# Altium integrated library TI Microcontroller MSP430 16-bit Ultra-Low Power.IntLib: 1463 symbols (part 56 of 130)
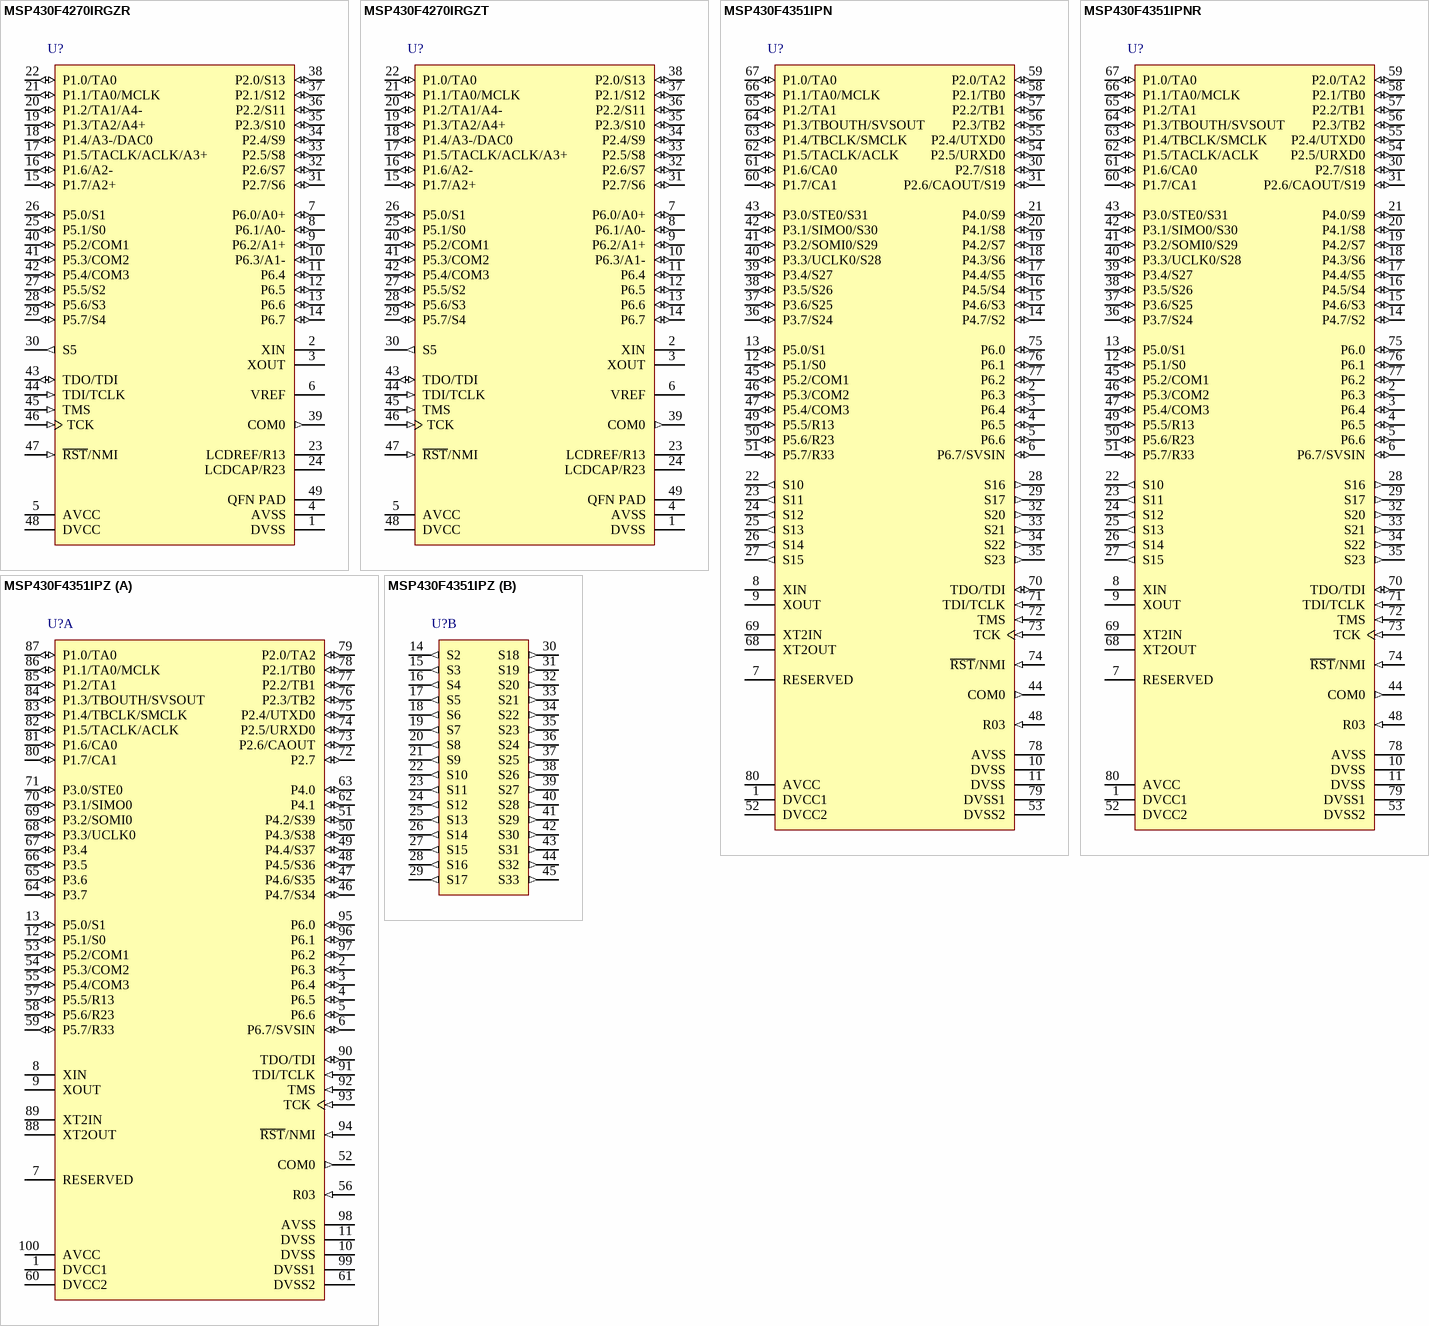
[diagram p364: symbols MSP430F4270IRGZR to MSP430F4351IPZ]

## MSP430F4270IRGZR
designator U?
8 MHz Mixed Signal Microcontroller with 32 KB Flash, 256 B SRAM and 32 GPIOs, -40 to 85 degC, 48-pin QFN (RGZ), Green (RoHS & no Sb/Br); Manufacturer: Texas Instruments; PartNumber: MSP430F4270IRGZR; ADC: 16-bit Sigma Delta; Brown Out Reset: Yes; DAC: 1; Flash(KB): 32; Frequency(MHz): 8; LCD Segments: 56; SRAM(B): 256; SubFamily: 4 Series with LCD; DatasheetVersion: SLAS455D; PackageVersion: 4204101/F; PackageReference: RGZ48-5150X5150TP; PackageDescription: 48-Pin Plastic Flat Pack, Body 7 x 7 mm, Pitch 0.5 mm; Supplier 1: Digi-Key; Supplier Part Number 1: 296-18070-2-ND; Supplier 2: Digi-Key; Supplier Part Number 2: 296-18070-1-ND; Supplier 3: Digi-Key; Supplier Part Number 3: 296-18070-6-ND; Supplier 4: Newark; Supplier Part Number 4: 37K0628; Supplier 5: Mouser; Supplier Part Number 5: 595-MSP430F4270IDLR; Eco-Plan: Green (RoHS & no Sb/Br); GPIO: 32; Temp Sensor: Yes; Timers - 16-bit: 1; Watchdog: Yes; Mounting Technology: Surface Mount; Code_JEDEC: MO-220; ComponentLink1Description: Manufacturer URL; ComponentLink1URL: http://www.ti.com/; ComponentLink2Description: Datasheet; ComponentLink2URL: http://www.ti.com/general/docs/lit/getliterature.tsp?genericPartNumber=MSP430F4270&fileType=pdf; ComponentLink3Description: Package Specification; ComponentLink3URL: http://www.ti.com/lit/ml/mpqf123e/mpqf123e.pdf
footprint TI-RGZ48-5150X5150TP_N (QFN, 48-Leads, Body 7x7mm, Pitch 0.5mm, Thermal Pad 5.15X5.15mm, IPC Medium Density)
pins: 1 DVSS (power) "Digital supply voltage, negative terminal", 2 XIN "Input terminal of crystal oscillator XT1", 3 XOUT "Output terminal of crystal oscillator XT1", 4 AVSS (power) "Analog supply voltage, negative terminal", 5 AVCC (power) "Analog supply voltage, positive terminal", 6 VREF "Analog reference voltage", 7 P6.0/A0+ (io), 8 P6.1/A0- (io), 9 P6.2/A1+ (io), 10 P6.3/A1- (io), 11 P6.4 (io) "General-purpose digital I/O", 12 P6.5 (io) "General-purpose digital I/O", 13 P6.6 (io) "General-purpose digital I/O", 14 P6.7 (io) "General-purpose digital I/O", 15 P1.7/A2+ (io), 16 P1.6/A2- (io), 17 P1.5/TACLK/ACLK/A3+ (io), 18 P1.4/A3-/DAC0 (io), 19 P1.3/TA2/A4+ (io), 20 P1.2/TA1/A4- (io), 21 P1.1/TA0/MCLK (io), 22 P1.0/TA0 (io), 23 LCDREF/R13, 24 LCDCAP/R23, 25 P5.1/S0 (io), 26 P5.0/S1 (io), 27 P5.5/S2 (io), 28 P5.6/S3 (io), 29 P5.7/S4 (io), 30 S5 (out) "LCD segment output 5", 31 P2.7/S6 (io), 32 P2.6/S7 (io), 33 P2.5/S8 (io), 34 P2.4/S9 (io), 35 P2.3/S10 (io), 36 P2.2/S11 (io), 37 P2.1/S12 (io), 38 P2.0/S13 (io), 39 COM0 (out) "Common output, COM0 are used for LCD backplanes.", 40 P5.2/COM1 (io), 41 P5.3/COM2 (io), 42 P5.4/COM3 (io), 43 TDO/TDI (io) "Test data output port. TDO/TDI data output or programming data input terminal", 44 TDI/TCLK (in) "Test data input or test clock input. The device protection fuse is connected to TDI/TCLK.", 45 TMS (in) "Test mode select. TMS is used as an input port for device programming and test.", 46 TCK (in) "Test clock. TCK is the clock input port for device programming and test.", 47 ~{RST}/NMI (in), 48 DVCC (power) "Digital supply voltage, positive terminal", 49 QFN PAD (power) "QFN package pad connection to DVSS recommended."

## MSP430F4270IRGZT
designator U?
8 MHz Mixed Signal Microcontroller with 32 KB Flash, 256 B SRAM and 32 GPIOs, -40 to 85 degC,48-pin QFN (RGZ), Green (RoHS & no Sb/Br); Manufacturer: Texas Instruments; PartNumber: MSP430F4270IRGZT; ADC: 16-bit Sigma Delta; Brown Out Reset: Yes; DAC: 1; Flash(KB): 32; Frequency(MHz): 8; LCD Segments: 56; SRAM(B): 256; SubFamily: 4 Series with LCD; DatasheetVersion: SLAS455D; PackageVersion: 4204101/F; PackageReference: RGZ48-5150X5150TP; PackageDescription: 48-Pin Plastic Flat Pack, Body 7 x 7 mm, Pitch 0.5 mm; Supplier 1: Digi-Key; Supplier Part Number 1: MSP430F4270IRGZR-ND; Supplier 2: Mouser; Supplier Part Number 2: 595-MSP430F4270IRGZR; Eco-Plan: Green (RoHS & no Sb/Br); GPIO: 32; Temp Sensor: Yes; Timers - 16-bit: 1; Watchdog: Yes; Mounting Technology: Surface Mount; Code_JEDEC: MO-220; ComponentLink1Description: Manufacturer URL; ComponentLink1URL: http://www.ti.com/; ComponentLink2Description: Datasheet; ComponentLink2URL: http://www.ti.com/general/docs/lit/getliterature.tsp?genericPartNumber=MSP430F4270&fileType=pdf; ComponentLink3Description: Package Specification; ComponentLink3URL: http://www.ti.com/lit/ml/mpqf123e/mpqf123e.pdf
footprint TI-RGZ48-5150X5150TP_N (QFN, 48-Leads, Body 7x7mm, Pitch 0.5mm, Thermal Pad 5.15X5.15mm, IPC Medium Density)
pins: 1 DVSS (power) "Digital supply voltage, negative terminal", 2 XIN "Input terminal of crystal oscillator XT1", 3 XOUT "Output terminal of crystal oscillator XT1", 4 AVSS (power) "Analog supply voltage, negative terminal", 5 AVCC (power) "Analog supply voltage, positive terminal", 6 VREF "Analog reference voltage", 7 P6.0/A0+ (io), 8 P6.1/A0- (io), 9 P6.2/A1+ (io), 10 P6.3/A1- (io), 11 P6.4 (io) "General-purpose digital I/O", 12 P6.5 (io) "General-purpose digital I/O", 13 P6.6 (io) "General-purpose digital I/O", 14 P6.7 (io) "General-purpose digital I/O", 15 P1.7/A2+ (io), 16 P1.6/A2- (io), 17 P1.5/TACLK/ACLK/A3+ (io), 18 P1.4/A3-/DAC0 (io), 19 P1.3/TA2/A4+ (io), 20 P1.2/TA1/A4- (io), 21 P1.1/TA0/MCLK (io), 22 P1.0/TA0 (io), 23 LCDREF/R13, 24 LCDCAP/R23, 25 P5.1/S0 (io), 26 P5.0/S1 (io), 27 P5.5/S2 (io), 28 P5.6/S3 (io), 29 P5.7/S4 (io), 30 S5 (out) "LCD segment output 5", 31 P2.7/S6 (io), 32 P2.6/S7 (io), 33 P2.5/S8 (io), 34 P2.4/S9 (io), 35 P2.3/S10 (io), 36 P2.2/S11 (io), 37 P2.1/S12 (io), 38 P2.0/S13 (io), 39 COM0 (out) "Common output, COM0 are used for LCD backplanes.", 40 P5.2/COM1 (io), 41 P5.3/COM2 (io), 42 P5.4/COM3 (io), 43 TDO/TDI (io) "Test data output port. TDO/TDI data output or programming data input terminal", 44 TDI/TCLK (in) "Test data input or test clock input. The device protection fuse is connected to TDI/TCLK.", 45 TMS (in) "Test mode select. TMS is used as an input port for device programming and test.", 46 TCK (in) "Test clock. TCK is the clock input port for device programming and test.", 47 ~{RST}/NMI (in), 48 DVCC (power) "Digital supply voltage, positive terminal", 49 QFN PAD (power) "QFN package pad connection to DVSS recommended."

## MSP430F4351IPN
designator U?
8 MHz Mixed Signal Microcontroller with 16 KB Flash, 512 B SRAM and 48 GPIOs, -40 to 85 degC, 80-pin QFP (PN), Green (RoHS & no Sb/Br); Manufacturer: Texas Instruments; PartNumber: MSP430F4351IPN; ADC: Slope; Brown Out Reset: Yes; Flash(KB): 16; Frequency(MHz): 8; GPIO: 48; LCD Segments: 128, 160; SRAM(B): 512; SubFamily: 4 Series with LCD; Timers - 16-bit: 2; USART: 1; DatasheetVersion: SLAS344G; PackageReference: PN80; PackageDescription: 80-Pin Plastic Quad Flat Pack, Body 12 x 12 mm, Pitch 0.5 mm; Supplier 1: Digi-Key; Supplier Part Number 1: 296-24719-2-ND; Supplier 2: Digi-Key; Supplier Part Number 2: 296-24719-1-ND; Supplier 3: Digi-Key; Supplier Part Number 3: 296-24719-6-ND; Supplier 4: Newark; Supplier Part Number 4: 84M9639; Supplier 5: Mouser; Supplier Part Number 5: 595-MSP430F427AIPMR; Comparators: Yes; Eco-Plan: Green (RoHS & no Sb/Br); SVS: Yes; Watchdog: Yes; Mounting Technology: Surface Mount; Code_JEDEC: MS-018; ComponentLink1Description: Manufacturer URL; ComponentLink1URL: http://www.ti.com/; ComponentLink2Description: Datasheet; ComponentLink2URL: http://www.ti.com/general/docs/lit/getliterature.tsp?genericPartNumber=MSP430F4351&fileType=pdf; ComponentLink3Description: Package Specification; ComponentLink3URL: http://www.ti.com/lit/ml/mtqf010a/mtqf010a.pdf
footprint TI-PN80_N (QFP, 80-Leads, Body 12x12mm, Pitch 0.5mm, IPC Medium Density)
pins: 1 DVCC1 (power) "Digital supply voltage, positive terminal.", 2 P6.3 (io) "General-purpose digital I/O", 3 P6.4 (io) "General-purpose digital I/O", 4 P6.5 (io) "General-purpose digital I/O", 5 P6.6 (io) "General-purpose digital I/O", 6 P6.7/SVSIN (io), 7 RESERVED "Reserved, do not connect externally", 8 XIN "Input port for crystal oscillator XT1. Standard or watch crystals can be connected.", 9 XOUT "Output terminal of crystal oscillator XT1", 10 DVSS (power) "Input for an external reference voltage to the ADC", 11 DVSS (power), 12 P5.1/S0 (io), 13 P5.0/S1 (io), 14 P4.7/S2 (io), 15 P4.6/S3 (io), 16 P4.5/S4 (io), 17 P4.4/S5 (io), 18 P4.3/S6 (io), 19 P4.2/S7 (io), 20 P4.1/S8 (io), 21 P4.0/S9 (io), 22 S10 (out) "LCD segment output 10", 23 S11 (out) "LCD segment output 11", 24 S12 (out) "LCD segment output 12", 25 S13 (out) "LCD segment output 13", 26 S14 (out) "LCD segment output 14", 27 S15 (out) "LCD segment output 15", 28 S16 (out) "LCD segment output 16", 29 S17 (out) "LCD segment output 17", 30 P2.7/S18 (io), 31 P2.6/CAOUT/S19 (io), 32 S20 (out) "LCD segment output 20", 33 S21 (out) "LCD segment output 21", 34 S22 (out) "LCD segment output 22", 35 S23 (out) "LCD segment output 23", 36 P3.7/S24 (io), 37 P3.6/S25 (io), 38 P3.5/S26 (io), 39 P3.4/S27 (io), 40 P3.3/UCLK0/S28 (io), 41 P3.2/SOMI0/S29 (io), 42 P3.1/SIMO0/S30 (io), 43 P3.0/STE0/S31 (io), 44 COM0 (out) "COM0-3 are used for LCD backplanes.", 45 P5.2/COM1 (io), 46 P5.3/COM2 (io), 47 P5.4/COM3 (io), 48 R03 (in) "Input port of fourth positive (lowest) analog LCD level (V5)", 49 P5.5/R13 (io), 50 P5.6/R23 (io), 51 P5.7/R33 (io), 52 DVCC2 (power) "Digital supply voltage, positive terminal.", 53 DVSS2 (power) "Digital supply voltage, negative terminal.", 54 P2.5/URXD0 (io), 55 P2.4/UTXD0 (io), 56 P2.3/TB2 (io), 57 P2.2/TB1 (io), 58 P2.1/TB0 (io), 59 P2.0/TA2 (io), 60 P1.7/CA1 (io), 61 P1.6/CA0 (io), 62 P1.5/TACLK/ACLK (io), 63 P1.4/TBCLK/SMCLK (io), 64 P1.3/TBOUTH/SVSOUT (io), 65 P1.2/TA1 (io), 66 P1.1/TA0/MCLK (io), 67 P1.0/TA0 (io), 68 XT2OUT "Output terminal of crystal oscillator XT2", 69 XT2IN "Input port for crystal oscillator XT2. Only standard crystals can be connected.", 70 TDO/TDI (io), 71 TDI/TCLK (in), 72 TMS (in) "Test mode select. TMS is used as an input port for device programming and test.", 73 TCK (in) "Test clock. TCK is the clock input port for device programming and test.", 74 ~{RST}/NMI (in), 75 P6.0 (io) "General-purpose digital I/O", 76 P6.1 (io) "General-purpose digital I/O", 77 P6.2 (io) "General-purpose digital I/O", 78 AVSS (power) "Analog supply voltage, negative terminal. Supplies SVS, brownout, oscillator, comparator_A, ADC12, port 1, and LCD resistive divider circuitry.", 79 DVSS1 (power) "Digital supply voltage, negative terminal.", 80 AVCC (power) "Analog supply voltage, positive terminal. Supplies SVS, brownout, oscillator, comparator_A, ADC12, port 1, and LCD resistive divider circuitry; must not power up prior to DVCC1/DVCC2."

## MSP430F4351IPNR
designator U?
8 MHz Mixed Signal Microcontroller with 16 KB Flash, 512 B SRAM and 48 GPIOs, -40 to 85 degC, 80-pin QFP (PN), Green (RoHS & no Sb/Br); Manufacturer: Texas Instruments; PartNumber: MSP430F4351IPNR; ADC: Slope; Brown Out Reset: Yes; Flash(KB): 16; Frequency(MHz): 8; GPIO: 48; LCD Segments: 128, 160; SRAM(B): 512; SubFamily: 4 Series with LCD; Timers - 16-bit: 2; USART: 1; DatasheetVersion: SLAS344G; PackageReference: PN80; PackageDescription: 80-Pin Plastic Quad Flat Pack, Body 12 x 12 mm, Pitch 0.5 mm; Supplier 1: Digi-Key; Supplier Part Number 1: MSP430F4351IPN-ND; Supplier 2: Newark; Supplier Part Number 2: 50M8865; Supplier 3: Mouser; Supplier Part Number 3: 595-MSP430F4351IPN; Comparators: Yes; Eco-Plan: Green (RoHS & no Sb/Br); SVS: Yes; Watchdog: Yes; Mounting Technology: Surface Mount; Code_JEDEC: MS-018; ComponentLink1Description: Manufacturer URL; ComponentLink1URL: http://www.ti.com/; ComponentLink2Description: Datasheet; ComponentLink2URL: http://www.ti.com/general/docs/lit/getliterature.tsp?genericPartNumber=MSP430F4351&fileType=pdf; ComponentLink3Description: Package Specification; ComponentLink3URL: http://www.ti.com/lit/ml/mtqf010a/mtqf010a.pdf
footprint TI-PN80_N (QFP, 80-Leads, Body 12x12mm, Pitch 0.5mm, IPC Medium Density)
pins: 1 DVCC1 (power) "Digital supply voltage, positive terminal.", 2 P6.3 (io) "General-purpose digital I/O", 3 P6.4 (io) "General-purpose digital I/O", 4 P6.5 (io) "General-purpose digital I/O", 5 P6.6 (io) "General-purpose digital I/O", 6 P6.7/SVSIN (io), 7 RESERVED "Reserved, do not connect externally", 8 XIN "Input port for crystal oscillator XT1. Standard or watch crystals can be connected.", 9 XOUT "Output terminal of crystal oscillator XT1", 10 DVSS (power) "Input for an external reference voltage to the ADC", 11 DVSS (power), 12 P5.1/S0 (io), 13 P5.0/S1 (io), 14 P4.7/S2 (io), 15 P4.6/S3 (io), 16 P4.5/S4 (io), 17 P4.4/S5 (io), 18 P4.3/S6 (io), 19 P4.2/S7 (io), 20 P4.1/S8 (io), 21 P4.0/S9 (io), 22 S10 (out) "LCD segment output 10", 23 S11 (out) "LCD segment output 11", 24 S12 (out) "LCD segment output 12", 25 S13 (out) "LCD segment output 13", 26 S14 (out) "LCD segment output 14", 27 S15 (out) "LCD segment output 15", 28 S16 (out) "LCD segment output 16", 29 S17 (out) "LCD segment output 17", 30 P2.7/S18 (io), 31 P2.6/CAOUT/S19 (io), 32 S20 (out) "LCD segment output 20", 33 S21 (out) "LCD segment output 21", 34 S22 (out) "LCD segment output 22", 35 S23 (out) "LCD segment output 23", 36 P3.7/S24 (io), 37 P3.6/S25 (io), 38 P3.5/S26 (io), 39 P3.4/S27 (io), 40 P3.3/UCLK0/S28 (io), 41 P3.2/SOMI0/S29 (io), 42 P3.1/SIMO0/S30 (io), 43 P3.0/STE0/S31 (io), 44 COM0 (out) "COM0-3 are used for LCD backplanes.", 45 P5.2/COM1 (io), 46 P5.3/COM2 (io), 47 P5.4/COM3 (io), 48 R03 (in) "Input port of fourth positive (lowest) analog LCD level (V5)", 49 P5.5/R13 (io), 50 P5.6/R23 (io), 51 P5.7/R33 (io), 52 DVCC2 (power) "Digital supply voltage, positive terminal.", 53 DVSS2 (power) "Digital supply voltage, negative terminal.", 54 P2.5/URXD0 (io), 55 P2.4/UTXD0 (io), 56 P2.3/TB2 (io), 57 P2.2/TB1 (io), 58 P2.1/TB0 (io), 59 P2.0/TA2 (io), 60 P1.7/CA1 (io), 61 P1.6/CA0 (io), 62 P1.5/TACLK/ACLK (io), 63 P1.4/TBCLK/SMCLK (io), 64 P1.3/TBOUTH/SVSOUT (io), 65 P1.2/TA1 (io), 66 P1.1/TA0/MCLK (io), 67 P1.0/TA0 (io), 68 XT2OUT "Output terminal of crystal oscillator XT2", 69 XT2IN "Input port for crystal oscillator XT2. Only standard crystals can be connected.", 70 TDO/TDI (io), 71 TDI/TCLK (in), 72 TMS (in) "Test mode select. TMS is used as an input port for device programming and test.", 73 TCK (in) "Test clock. TCK is the clock input port for device programming and test.", 74 ~{RST}/NMI (in), 75 P6.0 (io) "General-purpose digital I/O", 76 P6.1 (io) "General-purpose digital I/O", 77 P6.2 (io) "General-purpose digital I/O", 78 AVSS (power) "Analog supply voltage, negative terminal. Supplies SVS, brownout, oscillator, comparator_A, ADC12, port 1, and LCD resistive divider circuitry.", 79 DVSS1 (power) "Digital supply voltage, negative terminal.", 80 AVCC (power) "Analog supply voltage, positive terminal. Supplies SVS, brownout, oscillator, comparator_A, ADC12, port 1, and LCD resistive divider circuitry; must not power up prior to DVCC1/DVCC2."

## MSP430F4351IPZ
designator U?
8 MHz Mixed Signal Microcontroller with 16 KB Flash, 512 B SRAM and 48 GPIOs, -40 to 85 degC, 100-pin QFP (PZ), Green (RoHS & no Sb/Br); Manufacturer: Texas Instruments; PartNumber: MSP430F4351IPZ; ADC: Slope; Brown Out Reset: Yes; Flash(KB): 16; Frequency(MHz): 8; GPIO: 48; LCD Segments: 128, 160; SRAM(B): 512; SubFamily: 4 Series with LCD; Timers - 16-bit: 2; USART: 1; DatasheetVersion: SLAS344G; PackageVersion: 4040149/B; PackageReference: PZ100; PackageDescription: 100-Pin Plastic Flat Pack, Body 14 x 14 mm, Pitch 0.5 mm; Supplier 1: Digi-Key; Supplier Part Number 1: 296-22757-2-ND; Supplier 2: Digi-Key; Supplier Part Number 2: 296-22757-1-ND; Supplier 3: Farnell; Supplier Part Number 3: 1903442; Supplier 4: Newark; Supplier Part Number 4: 50M8866; Supplier 5: Mouser; Supplier Part Number 5: 595-MSP430F4351IPNR; Comparators: Yes; Eco-Plan: Green (RoHS & no Sb/Br); SVS: Yes; Watchdog: Yes; Mounting Technology: Surface Mount; Code_JEDEC: MS-026; ComponentLink1Description: Manufacturer URL; ComponentLink1URL: http://www.ti.com/; ComponentLink2Description: Datasheet; ComponentLink2URL: http://www.ti.com/general/docs/lit/getliterature.tsp?genericPartNumber=MSP430F4351&fileType=pdf; ComponentLink3Description: Package Specification; ComponentLink3URL: http://www.ti.com/lit/ml/mtqf013a/mtqf013a.pdf
footprint TI-PZ100_N (QFP, 100-Leads, Body 14x14mm, Pitch 0.5mm, IPC Medium Density)
part A pins: 1 DVCC1 (power) "Digital supply voltage, positive terminal.", 2 P6.3 (io) "General-purpose digital I/O", 3 P6.4 (io) "General-purpose digital I/O", 4 P6.5 (io) "General-purpose digital I/O", 5 P6.6 (io) "General-purpose digital I/O", 6 P6.7/SVSIN (io), 7 RESERVED "Reserved, do not connect externally", 8 XIN "Input port for crystal oscillator XT1. Standard or watch crystals can be connected.", 9 XOUT "Output terminal of crystal oscillator XT1", 10 DVSS (power) "Connect to DVSS", 11 DVSS (power) "Connect to DVSS", 12 P5.1/S0 (io), 13 P5.0/S1 (io), 46 P4.7/S34 (io), 47 P4.6/S35 (io), 48 P4.5/S36 (io), 49 P4.4/S37 (io), 50 P4.3/S38 (io), 51 P4.2/S39 (io), 52 COM0 (out) "COM0-3 are used for LCD backplanes.", 53 P5.2/COM1 (io), 54 P5.3/COM2 (io), 55 P5.4/COM3 (io), 56 R03 (in) "Input port of fourth positive (lowest) analog LCD level (V5)", 57 P5.5/R13 (io), 58 P5.6/R23 (io), 59 P5.7/R33 (io), 60 DVCC2 (power) "Digital supply voltage, positive terminal.", 61 DVSS2 (power) "Digital supply voltage, negative terminal.", 62 P4.1 (io) "General-purpose digital I/O", 63 P4.0 (io) "General-purpose digital I/O", 64 P3.7 (io) "General-purpose digital I/O", 65 P3.6 (io) "General-purpose digital I/O", 66 P3.5 (io) "General-purpose digital I/O", 67 P3.4 (io) "General-purpose digital I/O", 68 P3.3/UCLK0 (io), 69 P3.2/SOMI0 (io), 70 P3.1/SIMO0 (io), 71 P3.0/STE0 (io), 72 P2.7 (io) "General-purpose digital I/O", 73 P2.6/CAOUT (io), 74 P2.5/URXD0 (io), 75 P2.4/UTXD0 (io), 76 P2.3/TB2 (io), 77 P2.2/TB1 (io), 78 P2.1/TB0 (io), 79 P2.0/TA2 (io), 80 P1.7/CA1 (io), 81 P1.6/CA0 (io), 82 P1.5/TACLK/ACLK (io), 83 P1.4/TBCLK/SMCLK (io), 84 P1.3/TBOUTH/SVSOUT (io), 85 P1.2/TA1 (io), 86 P1.1/TA0/MCLK (io), 87 P1.0/TA0 (io), 88 XT2OUT "Output terminal of crystal oscillator XT2", 89 XT2IN "Input port for crystal oscillator XT2. Only standard crystals can be connected.", 90 TDO/TDI (io), 91 TDI/TCLK (in), 92 TMS (in) "Test mode select. TMS is used as an input port for device programming and test.", 93 TCK (in) "Test clock. TCK is the clock input port for device programming and test.", 94 ~{RST}/NMI (in), 95 P6.0 (io) "General-purpose digital I/O", 96 P6.1 (io) "General-purpose digital I/O", 97 P6.2 (io) "General-purpose digital I/O", 98 AVSS (power) "Analog supply voltage, negative terminal. Supplies SVS, brownout, oscillator, comparator_A, ADC12, port 1, and LCD resistive divider circuitry.", 99 DVSS1 (power) "Digital supply voltage, negative terminal.", 100 AVCC (power) "Analog supply voltage, positive terminal. Supplies SVS, brownout, oscillator, comparator_A, ADC12, port 1, and LCD resistive divider circuitry; must not power up prior to DVCC1/DVCC2."
part B pins: 14 S2 (out) "LCD segment output 2", 15 S3 (out) "LCD segment output 3", 16 S4 (out) "LCD segment output 4", 17 S5 (out) "LCD segment output 5", 18 S6 (out) "LCD segment output 6", 19 S7 (out) "LCD segment output 7", 20 S8 (out) "LCD segment output 8", 21 S9 (out) "LCD segment output 9", 22 S10 (out) "LCD segment output 10", 23 S11 (out) "LCD segment output 11", 24 S12 (out) "LCD segment output 12", 25 S13 (out) "LCD segment output 13", 26 S14 (out) "LCD segment output 14", 27 S15 (out) "LCD segment output 15", 28 S16 (out) "LCD segment output 16", 29 S17 (out) "LCD segment output 17", 30 S18 (out) "LCD segment output 18", 31 S19 (out) "LCD segment output 19", 32 S20 (out) "LCD segment output 20", 33 S21 (out) "LCD segment output 21", 34 S22 (out) "LCD segment output 22", 35 S23 (out) "LCD segment output 23", 36 S24 (out) "LCD segment output 24", 37 S25 (out) "LCD segment output 25", 38 S26 (out) "LCD segment output 26", 39 S27 (out) "LCD segment output 27", 40 S28 (out) "LCD segment output 28", 41 S29 (out) "LCD segment output 29", 42 S30 (out) "LCD segment output 30", 43 S31 (out) "LCD segment output 31", 44 S32 (out) "LCD segment output 32", 45 S33 (out) "LCD segment output 33"